# Altium schematic symbol library LMK61A2-100M00SIAR.SchLib: 1 symbol
Pins are listed as number, name and electrical type; pins without a type are passive.

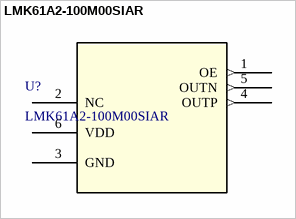
[diagram p0: symbol LMK61A2-100M00SIAR]

## LMK61A2-100M00SIAR
designator U?
100-MHz, Â±50 ppm, LVDS ultra-low jitter standard differential oscillator 6-QFM -40 to 85; Manufacturer_Name: Texas Instruments; Copyright: Copyright (C) 2026 Ultra Librarian. All rights reserved.; Manufacturer_Part_Number: LMK61A2-100M00SIAR; Datasheet: https://www.ti.com/lit/gpn/lmk61a2-100m; RefDes: RefDes; Type: Type
footprint SIA6_TEX
pins: 1 OE (out), 2 NC, 3 GND (power), 4 OUTP (out), 5 OUTN (out), 6 VDD (power)